# Altium schematic symbol library transformer_ethernet.SchLib: 21 symbols
Pins are listed as number, name and electrical type; pins without a type are passive.

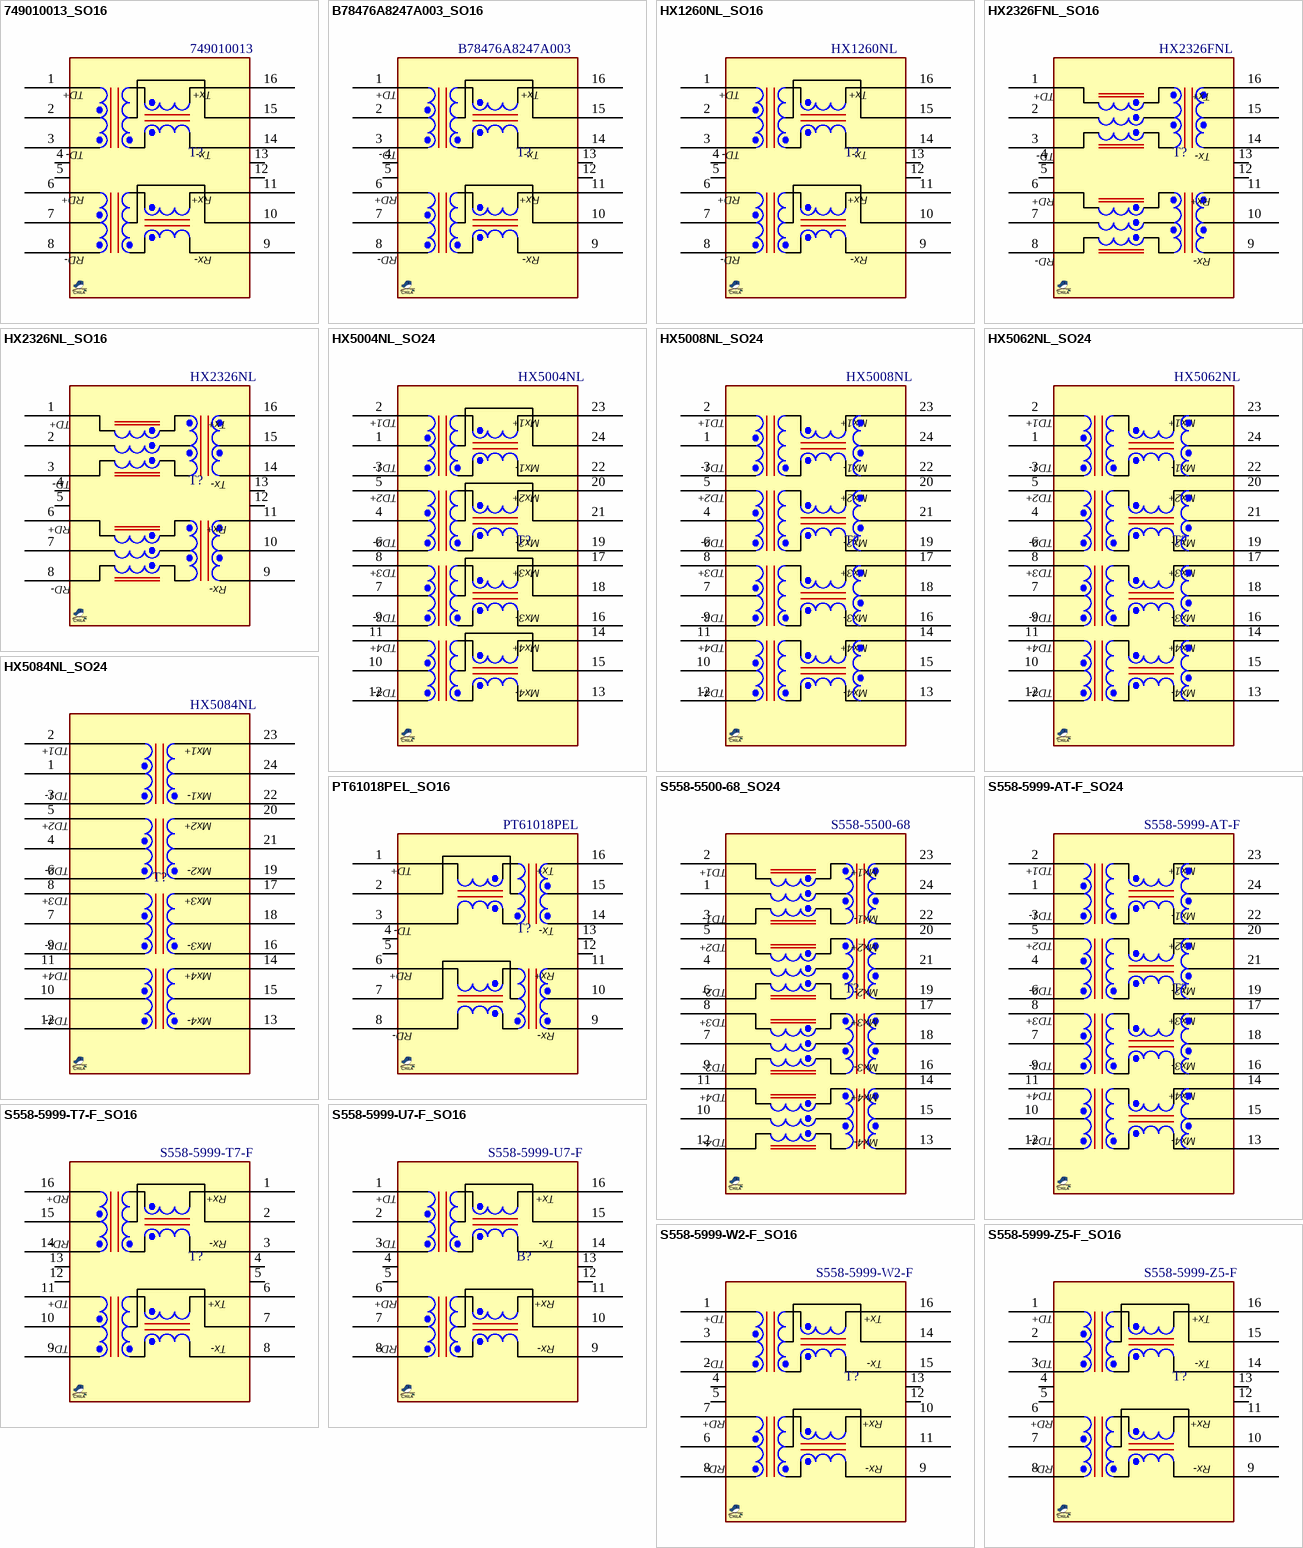
[diagram p0: symbols 749010013_SO16 to S558-5999-Z5-F_SO16]

## 749010013_SO16
designator T?, comment 749010013
Transformer, LAN, 10/100 Base-T XFMR , 1CT:1CT, 350uH; MANF: Wurth Elektronik; PARAM2: 1CT:1CT, 350uH, -40~85°C; MANF_P#: 749010013; PARAM: LAN, 10/100 Base-T XFMR; PRICE: 2$; VALUE: 749010013
footprint SO_16_7W530H (Transformer signal, pitch: 1.27mm, 12.7X7X5.3mm)
pins: 1 TD+, 2 CTD, 3 TD-, 4 NC_1, 5 NC_2, 6 RD+, 7 CRD, 8 RD-, 9 RX-, 10 CRX, 11 RX+, 12 NC_3, 13 NC_4, 14 TX-, 15 CTX, 16 TX+
text: Tx+; Tx-; Rx+; Rx-

## B78476A8247A003_SO16
designator T?, comment B78476A8247A003
Transformer, LAN, 10/100 Base-T; MANF: TDK/EPCOS; PARAM2: 1CT:1CT, 350uH, -40~85°C; MANF_P#: B78476A8247A003; PARAM: LAN, 10/100 Base-T; PRICE: 2$; VALUE: B78476A8247A003
footprint SO_16_7W6H (Transformer signal, pitch: 1.27mm, 12.7X7.2X6mm)
pins: 1 TD+, 2 CTD, 3 TD-, 4 NC_1, 5 NC_2, 6 RD+, 7 CRD, 8 RD-, 9 RX-, 10 CRX, 11 RX+, 12 NC_3, 13 NC_4, 14 TX-, 15 CTX, 16 TX+
text: Tx+; Tx-; Rx+; Rx-

## HX1260NL_SO16
designator T?, comment HX1260NL
Transformer, LAN, 100 Base-T , 1CT:1CT, 350uH; MANF: Pulse; PARAM2: 1CT:1CT, 350uH, 0~70°C; MANF_P#: HX1260NL; PARAM: LAN, 100 Base-T; PRICE: 4.5$; VALUE: HX1260NL
footprint SO_16_7W6H (Transformer signal, pitch: 1.27mm, 12.7X7.2X6mm)
pins: 1 TD+, 2 CTD, 3 TD-, 4 NC_1, 5 NC_2, 6 RD+, 7 CRD, 8 RD-, 9 RX-, 10 CRX, 11 RX+, 12 NC_3, 13 NC_4, 14 TX-, 15 CTX, 16 TX+
text: Tx+; Tx-; Rx+; Rx-

## HX2326FNL_SO16
designator T?, comment HX2326FNL
Transformer, LAN, 100 Base-TX PoE+ , 1CT:1CT, 350uH; MANF: Pulse; MANF_P#: HX2326FNLT; PARAM2: 1CT:1CT, 350uH, -40~85°C; PARAM: LAN, 100 Base-TX PoE+; PRICE: 4.5$; VALUE: HX2326FNL
footprint SO_16_9W6H (Transformer signal, pitch: 1.27mm, 12.7X9X6mm)
pins: 1 TD+, 2 TCT, 3 TD-, 4 NC_1, 5 NC_2, 6 RD+, 7 RCT, 8 RD-, 9 RX-, 10 RXCT, 11 RX+, 12 NC_3, 13 NC_4, 14 TX-, 15 TXCT, 16 TX+
text: Tx+; Tx-; Rx+; Rx-

## HX2326NL_SO16
designator T?, comment HX2326NL
Transformer, LAN, 100 Base-TX PoE+ , 1CT:1CT, 350uH; MANF: Pulse; MANF_P#: HX2326NLT; PARAM2: 1CT:1CT, 350uH, -40~85°C; PARAM: LAN, 100 Base-TX PoE+; PRICE: 4.5$; VALUE: HX2326NL
footprint SO_16_7W6H (Transformer signal, pitch: 1.27mm, 12.7X7.2X6mm)
pins: 1 TD+, 2 TCT, 3 TD-, 4 NC_1, 5 NC_2, 6 RD+, 7 RCT, 8 RD-, 9 RX-, 10 RXCT, 11 RX+, 12 NC_3, 13 NC_4, 14 TX-, 15 TXCT, 16 TX+
text: Tx+; Tx-; Rx+; Rx-

## HX5004NL_SO24
designator T?, comment HX5004NL
Transformer, LAN, 1000 Base-T, 1CT:1CT, 350uH; MANF: Pulse; PARAM2: 1CT:1CT, 350uH, 0~70°C; MANF_P#: HX5004NL; PARAM: LAN, 1000 Base-T; PRICE: 11$; VALUE: HX5004NL
footprint SO_24_12W6H (Transformer signal, pitch: 1.27mm, 17.6X12.2X6mm)
pins: 1 TCT1, 2 TD1+, 3 TD1-, 4 TCT2, 5 TD2+, 6 TD2-, 7 TCT3, 8 TD3+, 9 TD3-, 10 TCT4, 11 TD4+, 12 TD4-, 13 MX4-, 14 MX4+, 15 MCT4, 16 MX3-, 17 MX3+, 18 MCT3, 19 MX2-, 20 MX2+, 21 MCT2, 22 MX1-, 23 MX1+, 24 MCT1
text: Mx1+; Mx1-; Mx2+; Mx2-; Mx3+; Mx3-; Mx4+; Mx4-

## HX5008NL_SO24
designator T?, comment HX5008NL
Transformer, LAN, 1000 Base, 1CT:1CT, 350uH; MANF: Pulse; MANF_P#: HX5008NLT; PARAM2: 1CT:1CT, 350uH, 0~70°C; PARAM: LAN, 1000 Base; PRICE: 11$; VALUE: HX5008NL
footprint SOG100_24_W (Transformer signal, pitch: 1.27mm, 12.7X7.2X6mm)
pins: 1 TCT1, 2 TD1+, 3 TD1-, 4 TCT2, 5 TD2+, 6 TD2-, 7 TCT3, 8 TD3+, 9 TD3-, 10 TCT4, 11 TD4+, 12 TD4-, 13 MX4-, 14 MX4+, 15 MCT4, 16 MX3-, 17 MX3+, 18 MCT3, 19 MX2-, 20 MX2+, 21 MCT2, 22 MX1-, 23 MX1+, 24 MCT1
text: Mx1+; Mx1-; Mx2+; Mx2-; Mx3+; Mx3-; Mx4+; Mx4-

## HX5062NL_SO24
designator T?, comment HX5062NL
Transformer, LAN, 1000 Base-T, 1CT:1CT, 350uH; MANF: Pulse; PARAM2: 1CT:1CT, 350uH, -40~85°C; MANF_P#: HX5062NL; PARAM: LAN, 1000 Base-T; PRICE: 9$; VALUE: HX5062NL
footprint SO_24_12W6H (Transformer signal, pitch: 1.27mm, 17.6X12.2X6mm)
pins: 1 TCT1, 2 TD1+, 3 TD1-, 4 TCT2, 5 TD2+, 6 TD2-, 7 TCT3, 8 TD3+, 9 TD3-, 10 TCT4, 11 TD4+, 12 TD4-, 13 MX4-, 14 MX4+, 15 MCT4, 16 MX3-, 17 MX3+, 18 MCT3, 19 MX2-, 20 MX2+, 21 MCT2, 22 MX1-, 23 MX1+, 24 MCT1
text: Mx1+; Mx1-; Mx2+; Mx2-; Mx3+; Mx3-; Mx4+; Mx4-

## HX5084NL_SO24
designator T?, comment HX5084NL
Transformer, LAN 10/100/1000 Base-T, 1CT:1CT, 350uH; MANF: Pulse; PARAM2: 1CT:1CT, 350uH, -40~85°C; MANF_P#: HX5084NL; PARAM: LAN 10/100/1000 Base-T; PRICE: 7$; VALUE: HX5084NL
footprint SOG100_24 (ETHERNET TRANSFORMER, 15.24X10.2mm, 1mm pitch,HX5084NL)
pins: 1 TCT1, 2 TD1+, 3 TD1-, 4 TCT2, 5 TD2+, 6 TD2-, 7 TCT3, 8 TD3+, 9 TD3-, 10 TCT4, 11 TD4+, 12 TD4-, 13 MX4-, 14 MX4+, 15 MCT4, 16 MX3-, 17 MX3+, 18 MCT3, 19 MX2-, 20 MX2+, 21 MCT2, 22 MX1-, 23 MX1+, 24 MCT1
text: Mx1+; Mx1-; Mx2+; Mx2-; Mx3+; Mx3-; Mx4+; Mx4-

## PT61018PEL_SO16
designator T?, comment PT61018PEL
Transformer, LAN, 10/100 Base-Tx, 1CT:1CT, 350uH; MANF: Bourns; PARAM2: 1CT:1CT, 350uH, -40~85°C; MANF_P#: PT61018PEL; PARAM: LAN, 10/100 Base-Tx; PRICE: 2.3$; VALUE: PT61018PEL
footprint SO_16_7W6H (Transformer signal, pitch: 1.27mm, 12.7X7.2X6mm)
pins: 1 TD+, 2 CTD, 3 TD-, 4 NC_1, 5 NC_2, 6 RD+, 7 CRD, 8 RD-, 9 RX-, 10 CRX, 11 RX+, 12 NC_3, 13 NC_4, 14 TX-, 15 CTX, 16 TX+
text: Tx+; Tx-; Rx+; Rx-

## S558-5500-68_SO24
designator T?, comment S558-5500-68
Transformer, LAN, 1000 Base-T, 1CT:1CT, 350uH; MANF: Bel; PARAM2: 1CT:1CT, 350uH, -40~85°C; MANF_P#: S558-5500-68; PARAM: LAN, 1000 Base-T; PRICE: 4$; VALUE: S558-5500-68
footprint SO_24_12W6H (Transformer signal, pitch: 1.27mm, 17.6X12.2X6mm)
pins: 1 TCT1, 2 TD1+, 3 TD1-, 4 TCT2, 5 TD2+, 6 TD2-, 7 TCT3, 8 TD3+, 9 TD3-, 10 TCT4, 11 TD4+, 12 TD4-, 13 MX4-, 14 MX4+, 15 MCT4, 16 MX3-, 17 MX3+, 18 MCT3, 19 MX2-, 20 MX2+, 21 MCT2, 22 MX1-, 23 MX1+, 24 MCT1
text: Mx1+; Mx1-; Mx2+; Mx2-; Mx3+; Mx3-; Mx4+; Mx4-

## S558-5999-AT-F_SO24
designator T?, comment S558-5999-AT-F
Transformer, LAN, 1000 Base-T, 1CT:1CT, 350uH; MANF: Bel; PARAM2: 1CT:1CT, 350uH, -40~85°C; MANF_P#: S558-5999-AT-F; PARAM: LAN, 1000 Base-T; PRICE: 6$; VALUE: S558-5999-AT-F
footprint SO_24_12W6H (Transformer signal, pitch: 1.27mm, 17.6X12.2X6mm)
pins: 1 TCT1, 2 TD1+, 3 TD1-, 4 TCT2, 5 TD2+, 6 TD2-, 7 TCT3, 8 TD3+, 9 TD3-, 10 TCT4, 11 TD4+, 12 TD4-, 13 MX4-, 14 MX4+, 15 MCT4, 16 MX3-, 17 MX3+, 18 MCT3, 19 MX2-, 20 MX2+, 21 MCT2, 22 MX1-, 23 MX1+, 24 MCT1
text: Mx1+; Mx1-; Mx2+; Mx2-; Mx3+; Mx3-; Mx4+; Mx4-

## S558-5999-T7-F_SO16
designator T?, comment S558-5999-T7-F
Transformer, LAN, 10/100 Base-T, 1CT:1CT, 350uH; MANF: Bel; PARAM2: 1CT:1CT, 350uH, -40~85°C; MANF_P#: S558-5999-T7-F; PARAM: LAN, 10/100 Base-T; PRICE: 2$; VALUE: S558-5999-T7-F
footprint SO_16_7W6H (Transformer signal, pitch: 1.27mm, 12.7X7.2X6mm)
pins: 1 RX+, 2 RXCT, 3 RX-, 4 NC_1, 5 NC_2, 6 TX+, 7 TXCT, 8 TX-, 9 TD-, 10 TCT, 11 TD+, 12 NC_3, 13 NC_4, 14 RD-, 15 RCT, 16 RD+
text: Rx+; Rx-; Tx+; Tx-

## S558-5999-U7-F_SO16
designator B?, comment S558-5999-U7-F
Transformer, LAN, 10/100 Base-T, 1CT:1CT, 350uH; MANF: Bel; PARAM2: 1CT:1CT, 350uH, -40~85°C; MANF_P#: S558-5999-U7-F; PARAM: LAN, 10/100 Base-T; PRICE: 2.5$; VALUE: S558-5999-U7-F
footprint SO_16_7W6H (Transformer signal, pitch: 1.27mm, 12.7X7.2X6mm)
pins: 1 TD+, 2 TDCT, 3 TD-, 4 NC_1, 5 NC_2, 6 RD+, 7 RDCT, 8 RD-, 9 RX-, 10 RXCT, 11 RX+, 12 NC_3, 13 NC_4, 14 TX-, 15 TXCT, 16 TX+
text: Tx+; Tx-; Rx+; Rx-

## S558-5999-W2-F_SO16
designator T?, comment S558-5999-W2-F
Transformer, LAN, 10/100 Base-T, 1CT:1CT, 350uH; MANF: Bel; PARAM2: 1CT:1CT, 350uH, -40~85°C; MANF_P#: S558-5999-W2-F; PARAM: LAN, 10/100 Base-T; PRICE: 2$; VALUE: S558-5999-W2-F
footprint SO_16_7W6H (Transformer signal, pitch: 1.27mm, 12.7X7.2X6mm)
pins: 1 TD+, 2 TD-, 3 TDCT, 4 NC_1, 5 NC_2, 6 RDCT, 7 RD+, 8 RD-, 9 RX-, 10 RX+, 11 RXCT, 12 NC_3, 13 NC_4, 14 TXCT, 15 TX-, 16 TX+
text: Tx+; Tx-; Rx+; Rx-

## S558-5999-Z5-F_SO16
designator T?, comment S558-5999-Z5-F
Transformer, LAN, 10/100 Base-T, 1CT:1CT, 350uH; MANF: Bel; PARAM2: 1CT:1CT, 350uH, -40~85°C; MANF_P#: S558-5999-Z5-F; PARAM: LAN, 10/100 Base-T; PRICE: 2.5$; VALUE: S558-5999-Z5-F
footprint SO_16_7W6H (Transformer signal, pitch: 1.27mm, 12.7X7.2X6mm)
pins: 1 TD+, 2 TCT, 3 TD-, 4 NC_1, 5 NC_2, 6 RD+, 7 RCT, 8 RD-, 9 RX-, 10 RXCT, 11 RX+, 12 NC_3, 13 NC_4, 14 TX-, 15 TXCT, 16 TX+
text: Tx+; Tx-; Rx+; Rx-

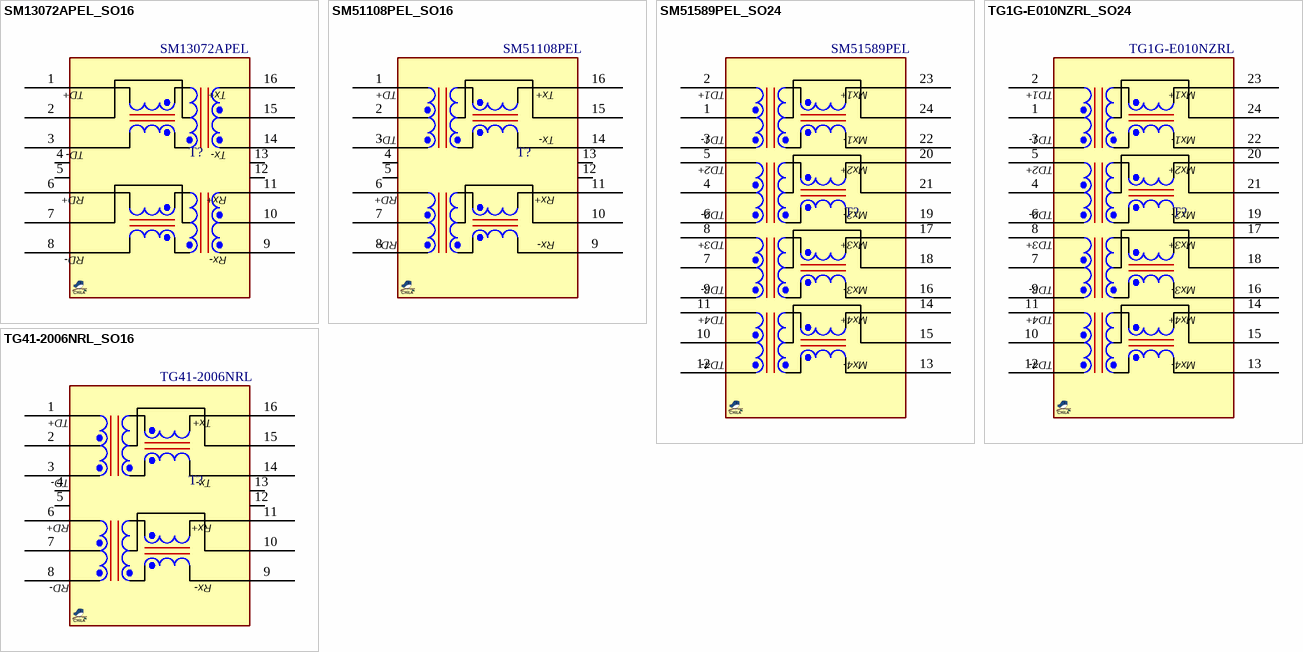
[diagram p1: symbols SM13072APEL_SO16 to TG41-2006NRL_SO16]

## SM13072APEL_SO16
designator T?, comment SM13072APEL
Transformer, LAN, 10/100 Base-T, 1CT:1CT, 350uH; MANF: Bourns; PARAM2: 1CT:1CT, 350uH, -40~125°C; MANF_P#: SM13072APEL; PARAM: LAN, 10/100 Base-T; PRICE: 3$; VALUE: SM13072APEL
footprint SO_16_7W6H (Transformer signal, pitch: 1.27mm, 12.7X7.2X6mm)
pins: 1 TD+, 2 CTD, 3 TD-, 4 NC_1, 5 NC_2, 6 RD+, 7 CRD, 8 RD-, 9 RX-, 10 CRX, 11 RX+, 12 NC_3, 13 NC_4, 14 TX-, 15 CTX, 16 TX+
text: Tx+; Tx-; Rx+; Rx-

## SM51108PEL_SO16
designator T?, comment SM51108PEL
Transformer, LAN, 10/100 Base-T, 1CT:1CT, 350uH; MANF: Bourns; PARAM2: 1CT:1CT, 350uH, -40~85°C; MANF_P#: SM51108PEL; PARAM: LAN, 10/100 Base-T; PRICE: 2$; VALUE: SM51108PEL
footprint SO_16_7W6H (Transformer signal, pitch: 1.27mm, 12.7X7.2X6mm)
pins: 1 TD+, 2 TCT, 3 TD-, 4 NC_1, 5 NC_2, 6 RD+, 7 RCT, 8 RD-, 9 RX-, 10 RXCT, 11 RX+, 12 NC_3, 13 NC_4, 14 TX-, 15 TXCT, 16 TX+
text: Tx+; Tx-; Rx+; Rx-

## SM51589PEL_SO24
designator T?, comment SM51589PEL
Transformer, LAN, 10/100/1000 Base-T PoE+, 1CT:1CT, 350uH; MANF: Bourns; PARAM2: 1CT:1CT, 350uH, -40~85°C; MANF_P#: SM51589PEL; PARAM: LAN, 10/100/1000 Base-T PoE+; PRICE: 3$; VALUE: SM51589PEL
footprint SO_24_12W6H (Transformer signal, pitch: 1.27mm, 17.6X12.2X6mm)
pins: 1 MCT1, 2 MX1+, 3 MX1-, 4 MCT2, 5 MX2+, 6 MX2-, 7 MCT3, 8 MX3+, 9 MX3-, 10 MCT4, 11 MX4+, 12 MX4-, 13 TD4-, 14 TD4+, 15 TCT4, 16 TD3-, 17 TD3+, 18 TCT3, 19 TD2-, 20 TD2+, 21 TCT2, 22 TD1-, 23 TD1+, 24 TCT1
text: Mx1+; Mx1-; Mx2+; Mx2-; Mx3+; Mx3-; Mx4+; Mx4-

## TG1G-E010NZRL_SO24
designator T?, comment TG1G-E010NZRL
Transformer, LAN, 10/100/1000 Base-T, 1CT:1CT, 350uH; MANF: Halo Electronics; PARAM2: 1CT:1CT, 350uH, -40~85°C; MANF_P#: TG1G-E010NZRL; PARAM: LAN, 10/100/1000 Base-T; PRICE: 9$; VALUE: TG1G-E010NZRL
footprint SO_24_12W6H (Transformer signal, pitch: 1.27mm, 17.6X12.2X6mm)
pins: 1 MCT1, 2 MX1+, 3 MX1-, 4 MCT2, 5 MX2+, 6 MX2-, 7 MCT3, 8 MX3+, 9 MX3-, 10 MCT4, 11 MX4+, 12 MX4-, 13 TD4-, 14 TD4+, 15 TCT4, 16 TD3-, 17 TD3+, 18 TCT3, 19 TD2-, 20 TD2+, 21 TCT2, 22 TD1-, 23 TD1+, 24 TCT1
text: Mx1+; Mx1-; Mx2+; Mx2-; Mx3+; Mx3-; Mx4+; Mx4-

## TG41-2006NRL_SO16
designator T?, comment TG41-2006NRL
Transformer, LAN, 10 Base-T, 1CT:1CT, 350uH; MANF: Halo Electronics; PARAM2: 1CT:1CT, 350uH, -40~85°C; MANF_P#: TG41-2006NRL; PARAM: LAN, 10 Base-T; PRICE: 4$; VALUE: TG41-2006NRL
footprint SO_16_7W5H (16pinsoic (HALO)  pitch: 1.27mm, 12.7X7.1X5mm)
pins: 1 TD+, 2 CTD, 3 TD-, 4 NC_1, 5 NC_2, 6 RD+, 7 CRD, 8 RD-, 9 RX-, 10 CRX, 11 RX+, 12 NC_3, 13 NC_4, 14 TX-, 15 CTX, 16 TX+
text: Tx+; Tx-; Rx+; Rx-